# Altium schematic symbol library LED SMD 5050 RGB.Schlib: 1 symbol
Pins are listed as number, name and electrical type; pins without a type are passive.

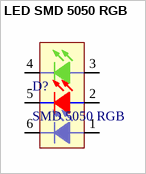
[diagram p0: symbol LED SMD 5050 RGB]

## LED SMD 5050 RGB
designator D?, comment Comment_1: SMD 5050 RGB  (hidden comment: probably led colors not mach to real please check the device and change the component)
SMD 5050 RGB LED; Designer: Abbas Basereh; Design Date: 1395/11/10; ComponentLink1Description: SMD 5050 RGB; ComponentLink1URL: http://www.yuanlei-led.com; ComponentLink2Description: Reference; PackageDescription: SMD 5050 RGB; Publisher: Abbas Basereh; Mounting Technology: Surface Mount; HelpURL: probably color of the leds not mached real please check and change; Pin Count: 6; Status: Unreleased
footprint 5050 LED package (DESIGNER ABBAS BASEREH)
pins: 1, 2, 3, 4, 5, 6